# EAGLE library part DPS310XTSA1 (library DPS310XTSA1)
Pressure Sensor 0.3kPa to 1.2kPa Absolute 8-Pin LGA
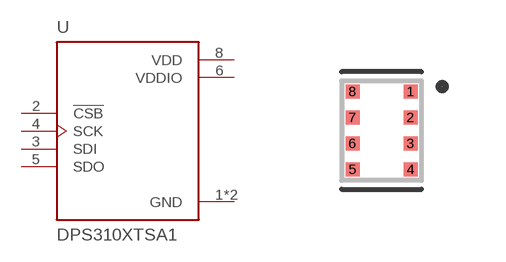
[diagram p0: symbol with the pads of XDCR_DPS310XTSA1; footprint XDCR_DPS310XTSA1]

Designator prefix U

## DPS310XTSA1 (Arrow_Electronics-Purchase-URL: https://snapeda.com/shop?store=Arrow+Electronics&id=581719; Description: Supply voltage range 1.7V to 3.6V | Operation range 300hPa 1200hPa | Sensors precision 0.005hPa | Relative accuracy 0.06hPa | Pressure temperature sensitivity of 0.5Pa/K | Temperature accuracy 0.5C; Digi-Key_Part_Number: DPS310XTSA1CT-ND; DigiKey-Purchase-URL: https://snapeda.com/shop?store=DigiKey&id=581719; MF: Infineon; MP: DPS310XTSA1; Mouser-Purchase-URL: https://snapeda.com/shop?store=Mouser&id=581719; Package: LGA-8 Infineon)  [XDCR_DPS310XTSA1]
1  GND  pwr
2  !CSB  in
3  SDI
4  SCK  in
5  SDO  out
6  VDDIO  pwr
7  GND  pwr
8  VDD  pwr

## Footprint XDCR_DPS310XTSA1 (pad centres in mm)
smd 0.35 x 0.35: 1 0.725,0.975; 2 0.725,0.325; 3 0.725,-0.325; 4 0.725,-0.975; 5 -0.725,-0.975; 6 -0.725,-0.325; 7 -0.725,0.325; 8 -0.725,0.975